# EAGLE library part DRV8848 (library jack_IC)
Dual H-Bridge Motor Driver, 2x2Amps, 4-18v
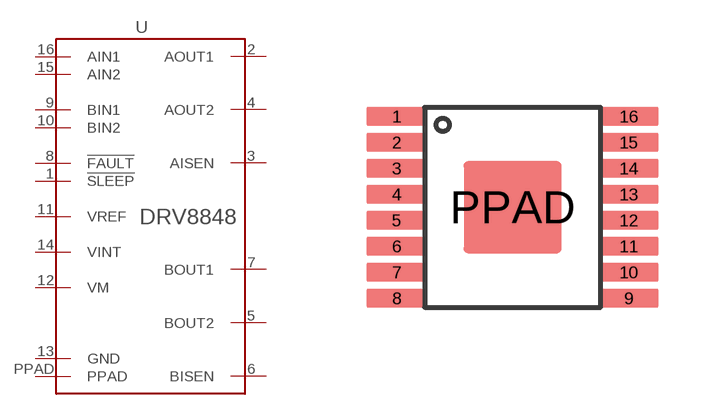
[diagram p13: symbol with the pads of PWP0016C; footprint PWP0016C]

Designator prefix U

## DRV8848  [PWP0016C]
1  !SLEEP
2  AOUT1
3  AISEN
4  AOUT2
5  BOUT2
6  BISEN
7  BOUT1
8  !FAULT
9  BIN1
10  BIN2
11  VREF
12  VM
13  GND
14  VINT
15  AIN2
16  AIN1
PPAD  PPAD

## Footprint PWP0016C (pad centres in mm)
smd 1.5 x 0.45: 1 -2.9,2.275; 2 -2.9,1.625; 3 -2.9,0.975; 4 -2.9,0.325; 5 -2.9,-0.325; 6 -2.9,-0.975; 7 -2.9,-1.625; 8 -2.9,-2.275; 9 2.9,-2.275; 10 2.9,-1.625; 11 2.9,-0.975; 12 2.9,-0.325; 13 2.9,0.325; 14 2.9,0.975; 15 2.9,1.625; 16 2.9,2.275
smd 2.46 x 2.31: PPAD 0,0